# EAGLE library part 1986ВЕ92 (library mcu)
АЕЯР.431290.711 ТУ 1986ВЕ92У/К1986ВЕ92QI - это 32-разрядный микроконтроллер на ядре Cortex-M3 с тактовой частотой до 80 МГц. Содержит 128 Кбайт Flash памяти программ и 32 Кбайта ОЗУ. Производитель: АО "ПКК "Миландр", г. Москва, Зеленоград. Технические условия: АЕЯР.431290.711 ТУ
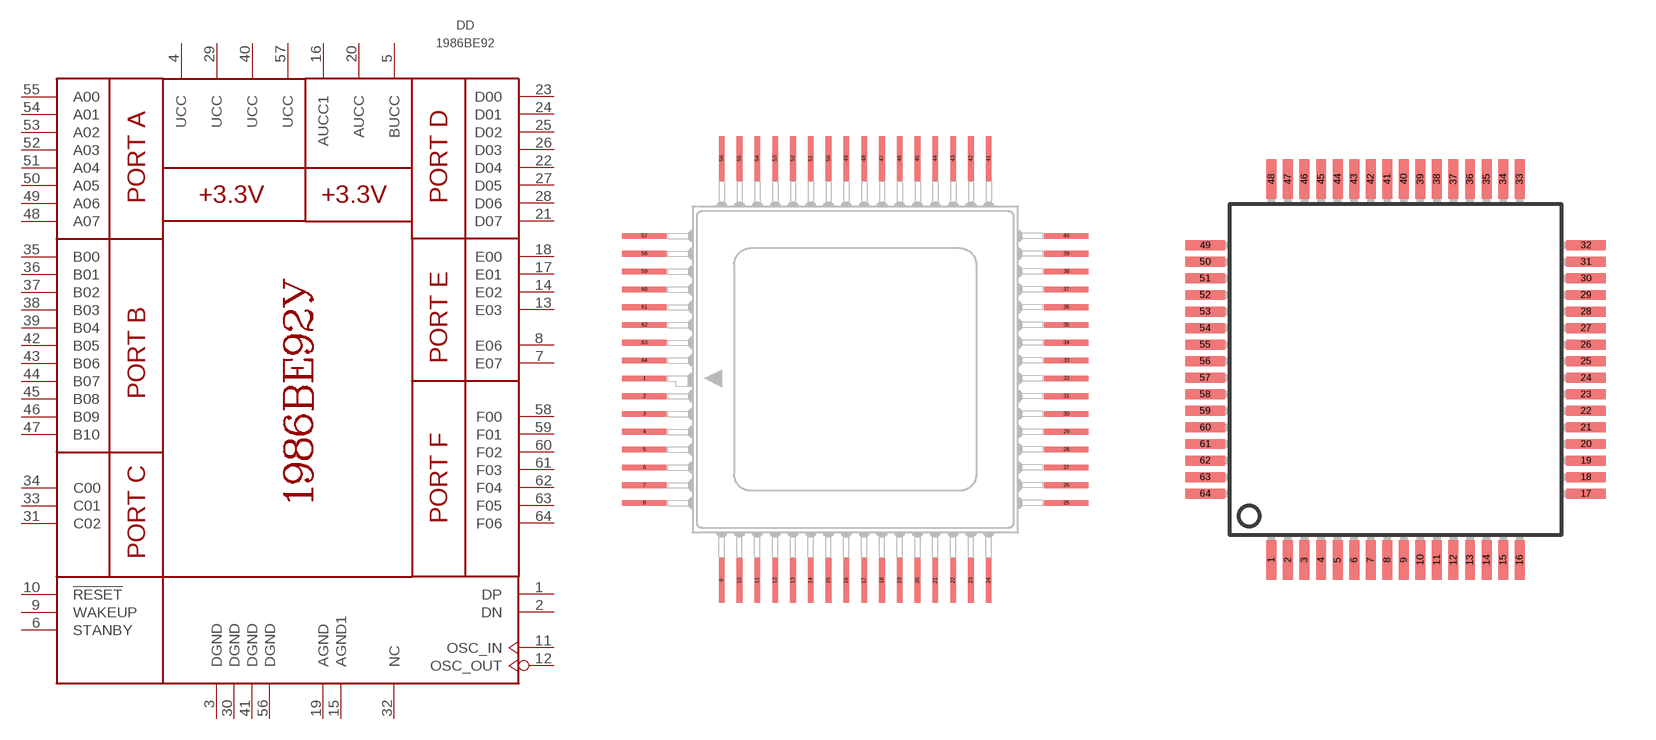
[diagram p5: symbol with the pads of Н18.64-1В; footprints Н18.64-1В, LQFP64]

Designator prefix DD

## 1986ВЕ92У  [Н18.64-1В]
1  DP
2  DN
3  DGND  pwr
4  UCC  pwr
5  BUCC  pwr
6  STANBY
7  E07
8  E06
9  WAKEUP
10  !RESET
11  OSC_IN  in
12  OSC_OUT  out
13  E03
14  E02
15  AGND1  pwr
16  AUCC1  pwr
17  E01
18  E00
19  AGND  pwr
20  AUCC  pwr
21  D07
22  D04
23  D00
24  D01
25  D02
26  D03
27  D05
28  D06
29  UCC  pwr
30  DGND  pwr
31  C02
32  NC  nc
33  C01
34  C00
35  B00
36  B01
37  B02
38  B03
39  B04
40  UCC  pwr
41  DGND  pwr
42  B05
43  B06
44  B07
45  B08
46  B09
47  B10
48  A07
49  A06
50  A05
51  A04
52  A03
53  A02
54  A01
55  A00
56  DGND  pwr
57  UCC  pwr
58  F00
59  F01
60  F02
61  F03
62  F04
63  F05
64  F06

## 1986ВЕ92QI  [LQFP64]
1  UCC  pwr
2  F00
3  F01
4  F02
5  F03
6  F04
7  F05
8  F06
9  DP
10  DN
11  DGND  pwr
12  UCC  pwr
13  BUCC  pwr
14  STANBY
15  E07
16  E06
17  WAKEUP
18  !RESET
19  OSC_IN  in
20  OSC_OUT  out
21  E03
22  E02
23  AGND1  pwr
24  AUCC1  pwr
25  E01
26  E00
27  AGND  pwr
28  AUCC  pwr
29  D07
30  D04
31  D00
32  D01
33  D02
34  D03
35  D05
36  D06
37  NC  nc
38  UCC  pwr
39  DGND  pwr
40  C02
41  C01
42  C00
43  B00
44  B01
45  B02
46  B03
47  B04
48  UCC  pwr
49  DGND  pwr
50  B05
51  B06
52  B07
53  B08
54  B09
55  B10
56  A07
57  A06
58  A05
59  A04
60  A03
61  A02
62  A01
63  A00
64  DGND  pwr

## Footprint Н18.64-1В (pad centres in mm)
smd 2.5 x 0.32: 1 -11.85,-0.5; 2 -11.85,-1.5; 3 -11.85,-2.5; 4 -11.85,-3.5; 5 -11.85,-4.5; 6 -11.85,-5.5; 7 -11.85,-6.5; 8 -11.85,-7.5; 25 11.85,-7.5; 26 11.85,-6.5; 27 11.85,-5.5; 28 11.85,-4.5; 29 11.85,-3.5; 30 11.85,-2.5; 31 11.85,-1.5; 32 11.85,-0.5; 33 11.85,0.5; 34 11.85,1.5; 35 11.85,2.5; 36 11.85,3.5; 37 11.85,4.5; 38 11.85,5.5; 39 11.85,6.5; 40 11.85,7.5; 57 -11.85,7.5; 58 -11.85,6.5; 59 -11.85,5.5; 60 -11.85,4.5; 61 -11.85,3.5; 62 -11.85,2.5; 63 -11.85,1.5; 64 -11.85,0.5
smd 0.32 x 2.5: 9 -7.5,-11.85; 10 -6.5,-11.85; 11 -5.5,-11.85; 12 -4.5,-11.85; 13 -3.5,-11.85; 14 -2.5,-11.85; 15 -1.5,-11.85; 16 -0.5,-11.85; 17 0.5,-11.85; 18 1.5,-11.85; 19 2.5,-11.85; 20 3.5,-11.85; 21 4.5,-11.85; 22 5.5,-11.85; 23 6.5,-11.85; 24 7.5,-11.85; 41 7.5,11.85; 42 6.5,11.85; 43 5.5,11.85; 44 4.5,11.85; 45 3.5,11.85; 46 2.5,11.85; 47 1.5,11.85; 48 0.5,11.85; 49 -0.5,11.85; 50 -1.5,11.85; 51 -2.5,11.85; 52 -3.5,11.85; 53 -4.5,11.85; 54 -5.5,11.85; 55 -6.5,11.85; 56 -7.5,11.85

## Footprint LQFP64 (pad centres in mm)
LQFP64 10 x 10 mm, 64-pin low-profile quad flat package
smd 0.3 x 1.2: 1 -3.75,-5.75; 2 -3.25,-5.75; 3 -2.75,-5.75; 4 -2.25,-5.75; 5 -1.75,-5.75; 6 -1.25,-5.75; 7 -0.75,-5.75; 8 -0.25,-5.75; 9 0.25,-5.75; 10 0.75,-5.75; 11 1.25,-5.75; 12 1.75,-5.75; 13 2.25,-5.75; 14 2.75,-5.75; 15 3.25,-5.75; 16 3.75,-5.75; 33 3.75,5.75; 34 3.25,5.75; 35 2.75,5.75; 36 2.25,5.75; 37 1.75,5.75; 38 1.25,5.75; 39 0.75,5.75; 40 0.25,5.75; 41 -0.25,5.75; 42 -0.75,5.75; 43 -1.25,5.75; 44 -1.75,5.75; 45 -2.25,5.75; 46 -2.75,5.75; 47 -3.25,5.75; 48 -3.75,5.75
smd 1.2 x 0.3: 17 5.75,-3.75; 18 5.75,-3.25; 19 5.75,-2.75; 20 5.75,-2.25; 21 5.75,-1.75; 22 5.75,-1.25; 23 5.75,-0.75; 24 5.75,-0.25; 25 5.75,0.25; 26 5.75,0.75; 27 5.75,1.25; 28 5.75,1.75; 29 5.75,2.25; 30 5.75,2.75; 31 5.75,3.25; 32 5.75,3.75; 49 -5.75,3.75; 50 -5.75,3.25; 51 -5.75,2.75; 52 -5.75,2.25; 53 -5.75,1.75; 54 -5.75,1.25; 55 -5.75,0.75; 56 -5.75,0.25; 57 -5.75,-0.25; 58 -5.75,-0.75; 59 -5.75,-1.25; 60 -5.75,-1.75; 61 -5.75,-2.25; 62 -5.75,-2.75; 63 -5.75,-3.25; 64 -5.75,-3.75